# Altium schematic symbol library Espressif Systems.SchLib: 6 symbols
Pins are listed as number, name and electrical type; pins without a type are passive.

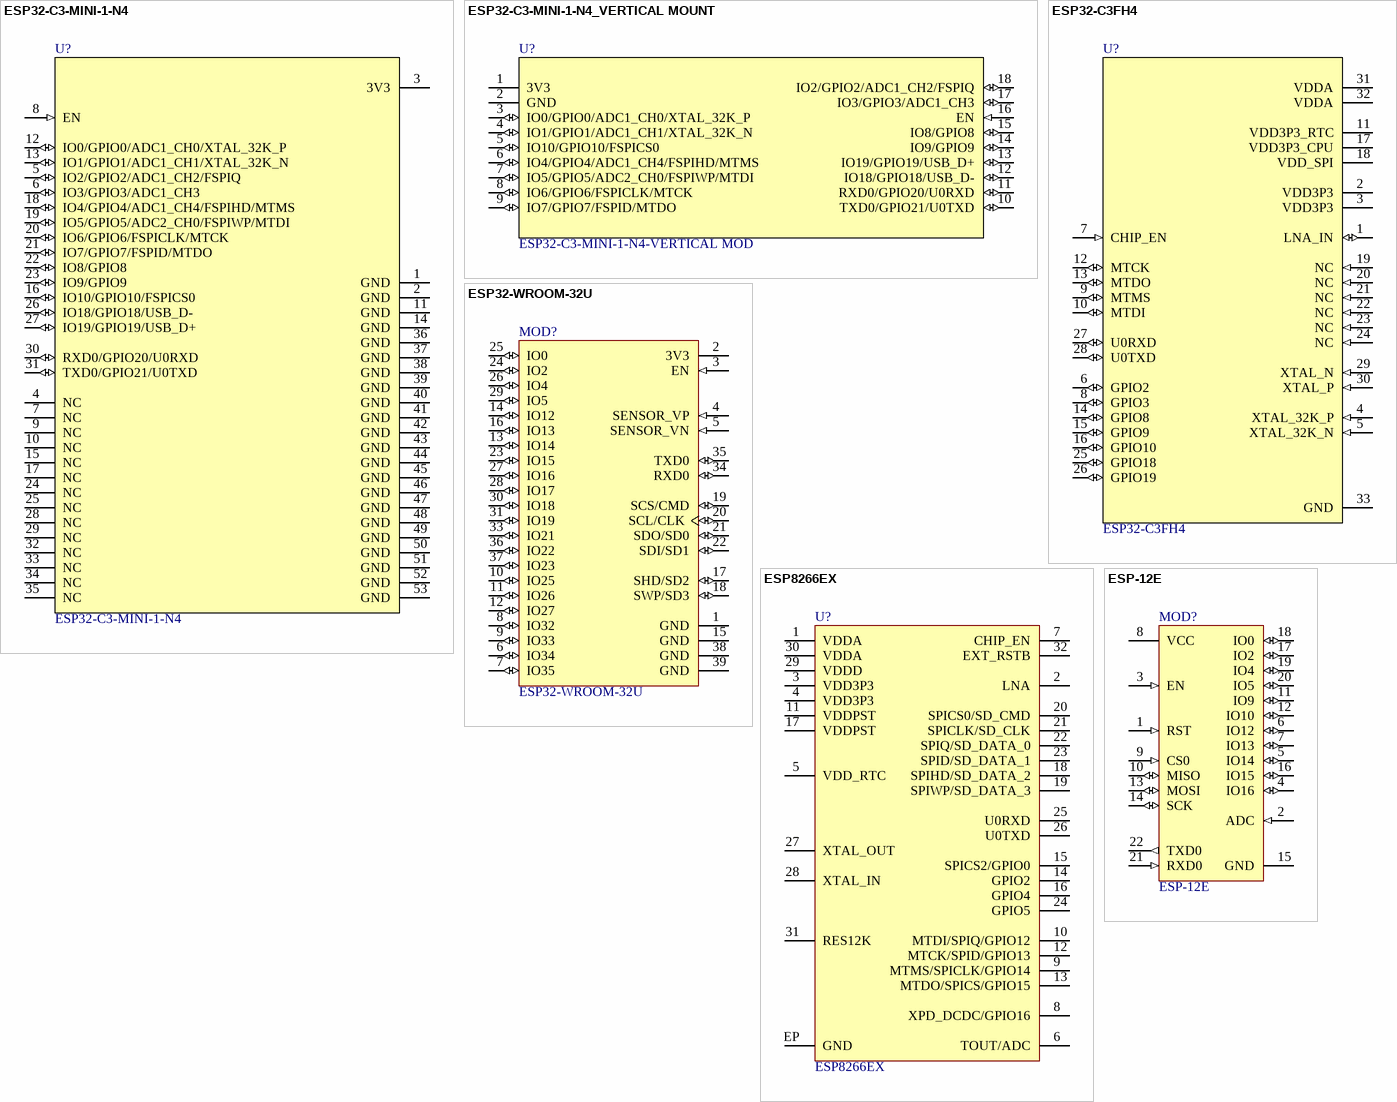
[diagram p0: symbols ESP32-C3-MINI-1-N4 to ESP-12E]

## ESP32-C3-MINI-1-N4
designator U?
SMD Module, ESP32-C3FN4, Pcb Ant; Manufacturer: Espressif Systems; Supplier: Digi-Key; Supplier Part Number: 1965-ESP32-C3-MINI-1-N4CT-ND; Manufacturer Part Number: ESP32-C3-MINI-1-N4; RoHS: No; Stock: 30934; Pricing: 1=1,88000 (USD)
footprint XCVR_ESP32-C3-MINI-1-N4
pins: 1 GND (power), 2 GND (power), 3 3V3 (power), 4 NC, 5 IO2/GPIO2/ADC1_CH2/FSPIQ (io), 6 IO3/GPIO3/ADC1_CH3 (io), 7 NC, 8 EN (in), 9 NC, 10 NC, 11 GND (power), 12 IO0/GPIO0/ADC1_CH0/XTAL_32K_P (io), 13 IO1/GPIO1/ADC1_CH1/XTAL_32K_N (io), 14 GND (power), 15 NC, 16 IO10/GPIO10/FSPICS0 (io), 17 NC, 18 IO4/GPIO4/ADC1_CH4/FSPIHD/MTMS (io), 19 IO5/GPIO5/ADC2_CH0/FSPIWP/MTDI (io), 20 IO6/GPIO6/FSPICLK/MTCK (io), 21 IO7/GPIO7/FSPID/MTDO (io), 22 IO8/GPIO8 (io), 23 IO9/GPIO9 (io), 24 NC, 25 NC, 26 IO18/GPIO18/USB_D- (io), 27 IO19/GPIO19/USB_D+ (io), 28 NC, 29 NC, 30 RXD0/GPIO20/U0RXD (io), 31 TXD0/GPIO21/U0TXD (io), 32 NC, 33 NC, 34 NC, 35 NC, 36 GND (power), 37 GND (power), 38 GND (power), 39 GND (power), 40 GND (power), 41 GND (power), 42 GND (power), 43 GND (power), 44 GND (power), 45 GND (power), 46 GND (power), 47 GND (power), 48 GND (power), 49 GND (power), 50 GND (power), 51 GND (power), 52 GND (power), 53 GND (power)

## ESP32-C3-MINI-1-N4_VERTICAL MOUNT
designator U?, comment ESP32-C3-MINI-1-N4-VERTICAL MOD
PCB VERTICAL Module, ESP32-C3FN4, Pcb Ant, USE EXTERNAL GERBER FILES TO MANUFACTURE SMALL PCB; Manufacturer: Espressif Systems; Supplier: Digi-Key; Supplier Part Number: 1965-ESP32-C3-MINI-1-N4CT-ND; Manufacturer Part Number: ESP32-C3-MINI-1-N4; RoHS: No; Stock: 30934; Pricing: 1=1,88000 (USD)
footprint XCVR_ESP32-C3-MINI-1-N4 - VERTICALMODULE (SEPARATE PCB FOR VERTICAL MOUNT, PITCH 1.4mm)
pins: 1 3V3 (power), 2 GND (power), 3 IO0/GPIO0/ADC1_CH0/XTAL_32K_P (io), 4 IO1/GPIO1/ADC1_CH1/XTAL_32K_N (io), 5 IO10/GPIO10/FSPICS0 (io), 6 IO4/GPIO4/ADC1_CH4/FSPIHD/MTMS (io), 7 IO5/GPIO5/ADC2_CH0/FSPIWP/MTDI (io), 8 IO6/GPIO6/FSPICLK/MTCK (io), 9 IO7/GPIO7/FSPID/MTDO (io), 10 TXD0/GPIO21/U0TXD (io), 11 RXD0/GPIO20/U0RXD (io), 12 IO18/GPIO18/USB_D- (io), 13 IO19/GPIO19/USB_D+ (io), 14 IO9/GPIO9 (io), 15 IO8/GPIO8 (io), 16 EN (in), 17 IO3/GPIO3/ADC1_CH3 (io), 18 IO2/GPIO2/ADC1_CH2/FSPIQ (io)

## ESP32-C3FH4
designator U?
QFN-32-EP(5x5) Microcontroller Units (MCUs/MPUs/SOCs) ROHS; Manufacturer: Espressif Systems; Supplier: Digikey; Supplier Part Number: 1904-ESP32-C3FH4CT-ND; Manufacturer Part Number: ESP32-C3FH4; RoHS: No; Category: LDO; Stock: 10957; Pricing: 1=1,3 (USD)
footprint QFN50P500X500X90_HS-33N (QFN, 32-Leads, Body 5,00x5,00mm, Pitch 0,50mm, Thermal Pad 3,70x3,70mm, IPC Medium Density)
pins: 1 LNA_IN (io), 2 VDD3P3 (power), 3 VDD3P3 (power), 4 XTAL_32K_P (in), 5 XTAL_32K_N (in), 6 GPIO2 (io), 7 CHIP_EN (in), 8 GPIO3 (io), 9 MTMS (io), 10 MTDI (io), 11 VDD3P3_RTC (power), 12 MTCK (io), 13 MTDO (io), 14 GPIO8 (io), 15 GPIO9 (io), 16 GPIO10 (io), 17 VDD3P3_CPU (power), 18 VDD_SPI (power), 19 NC (in), 20 NC (in), 21 NC (in), 22 NC (in), 23 NC (in), 24 NC (in), 25 GPIO18 (io), 26 GPIO19 (io), 27 U0RXD (io), 28 U0TXD (io), 29 XTAL_N (in), 30 XTAL_P (in), 31 VDDA (power), 32 VDDA (power), 33 GND (power)

## ESP32-WROOM-32U
designator MOD?
WIFI MODULE 32MBITS SPI FLASH; Manufacturer 1: Espressif Systems; Interface: I2C,SPI,GPIO,PWM,SDIO,UART; Frequency: 2.5GHz; Data Rate: 150Mbps; Sensitivity: -98dBm; Memory Size: 536KB; Supplier 1: Digi-Key; Manufacturer Part Number 1: ESP32-WROOM-32U; RoHS: No; Stock 1: 868; Pricing 1: 1=3,80000 (USD); Mount: Surface Mount; Case/Package: SMD/SMT; Min Operating Temperature: -40°C; Max Operating Temperature: 85°C; Packaging: Cut Tape; ComponentLink1URL: https://www.espressif.com/sites/default/files/documentation/esp32-wroom-32d_esp32-wroom-32u_datasheet_en.pdf?src-supplier=Digi-Key; ComponentLink1Description: https://www.espressif.com/sites/default/files/documentation/esp32-wroom-32d_esp32-wroom-32u_datasheet_en.pdf?src-supplier=Digi-Key; Value: ESP32-WROOM-32U; Supplier Part Number 1: 1904-1026-1-ND
footprint ESP32-WROOM-32D
pins: 1 GND (power), 2 3V3 (power), 3 EN (in), 4 SENSOR_VP (in), 5 SENSOR_VN (in), 6 IO34 (io), 7 IO35 (io), 8 IO32 (io), 9 IO33 (io), 10 IO25 (io), 11 IO26 (io), 12 IO27 (io), 13 IO14 (io), 14 IO12 (io), 15 GND (power), 16 IO13 (io), 17 SHD/SD2 (io), 18 SWP/SD3 (io), 19 SCS/CMD (io), 20 SCL/CLK (io), 21 SDO/SD0 (io), 22 SDI/SD1 (io), 23 IO15 (io), 24 IO2 (io), 25 IO0 (io), 26 IO4 (io), 27 IO16 (io), 28 IO17 (io), 29 IO5 (io), 30 IO18 (io), 31 IO19 (io), 33 IO21 (io), 34 RXD0 (io), 35 TXD0 (io), 36 IO22 (io), 37 IO23 (io), 38 GND (power), 39 GND (power)

## ESP8266EX
designator U?
SMD IC ESP8266EX, QFN32-PIN, 5_5; Manufacturer: Espressif Systems; RF Family/Standard: WiFi; Protocol: 802.11b/g/n; Data Rate (Max): 54Mbps; Frequency: 2.4GHz; Power - Output: 20dBm; Sensitivity: -91dBm; Serial Interfaces: I²C, I²S, SPI, UART; Voltage - Supply: 2.5 V ~ 3.6 V; Current - Receiving: 50mA ~ 56mA; Current - Transmitting: 120mA ~ 170mA; Manufacturer Part Number: ESP8266EX; Stock 1: 1158; Pricing 1: 1=2.94 (USD); ComponentLink1URL: //media.digikey.com/pdf/Data%20Sheets/Seeed%20Technology/113990234_Web.pdf; ComponentLink1Description: //media.digikey.com/pdf/Data%20Sheets/Seeed%20Technology/113990234_Web.pdf; Value: ESP8266EX; Package / Case: 32-VFQFN Exposed Pad; Category: RF Transceiver ICs; Supplier Part Number 1: 1904-1001-1-ND; Supplier 1: Digi-Key
footprint QFN32_5X5
footprint QFN32_5X5 - UPDATE
pins: 1 VDDA, 2 LNA, 3 VDD3P3, 4 VDD3P3, 5 VDD_RTC, 6 TOUT/ADC, 7 CHIP_EN, 8 XPD_DCDC/GPIO16, 9 MTMS/SPICLK/GPIO14, 10 MTDI/SPIQ/GPIO12, 11 VDDPST, 12 MTCK/SPID/GPIO13, 13 MTDO/SPICS/GPIO15, 14 GPIO2, 15 SPICS2/GPIO0, 16 GPIO4, 17 VDDPST, 18 SPIHD/SD_DATA_2, 19 SPIWP/SD_DATA_3, 20 SPICS0/SD_CMD, 21 SPICLK/SD_CLK, 22 SPIQ/SD_DATA_0, 23 SPID/SD_DATA_1, 24 GPIO5, 25 U0RXD, 26 U0TXD, 27 XTAL_OUT, 28 XTAL_IN, 29 VDDD, 30 VDDA, 31 RES12K, 32 EXT_RSTB, EP GND

## ESP-12E
designator MOD?
ESP8266 WIFI 802.11B/G/N 160MBIT; Manufacturer 1: RF Solutions; Interface: I2C,SPI,UART; Frequency: 2.484GHz; Sensitivity: -90dBm; Data Rate: 54Mbps; Supplier 1: Ai-Thinker; Stock 1: 21; Pricing 1: 1=9,43000, 10=8,64400, 25=7,85800, 100=7,07200, 250=6,48268, 500=5,89336, 1000=5,30402, 5000=5,10757 (USD); RoHS: No; ComponentLink1URL: http://www.farnell.com/datasheets/2575856.pdf?src-supplier=Farnell; ComponentLink1Description: http://www.farnell.com/datasheets/2575856.pdf?src-supplier=Farnell; ComponentLink2URL: https://www.rfsolutions.co.uk/downloads/1513856197DS-ESP-12S.pdf?src-supplier=Digi-Key; ComponentLink2Description: https://www.rfsolutions.co.uk/downloads/1513856197DS-ESP-12S.pdf?src-supplier=Digi-Key; Supplier Part Number 1: C89297; Manufacturer Part Number 1: ESP-12E; Value: ESP-12E
footprint ESP-12E
pins: 1 RST (in), 2 ADC (in), 3 EN (in), 4 IO16 (io), 5 IO14 (io), 6 IO12 (io), 7 IO13 (io), 8 VCC, 9 CS0 (in), 10 MISO (io), 11 IO9 (io), 12 IO10 (io), 13 MOSI (io), 14 SCK (io), 15 GND, 16 IO15 (io), 17 IO2 (io), 18 IO0 (io), 19 IO4 (io), 20 IO5 (io), 21 RXD0 (in), 22 TXD0 (out)